# Altium footprint library 0430451209.PcbLib: 1 footprints
Each footprint in its own frame and in the unit in brackets; x right, y up, seen from the top. Pads: shape width x height; smd on the part's side, far side on the other; paste and mask are expansions set on the pad; w line width, h text height; cw(c..) or ccw(c..) is an arc to the next point about the centre after c.
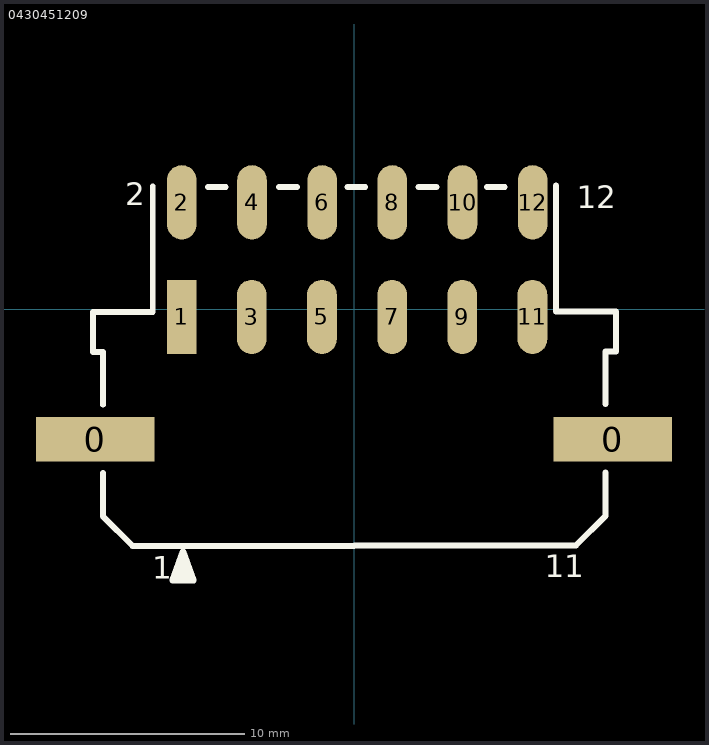
[diagram p0: the footprint, top view; thin cyan lines are the x and y axes]

## 0430451209 [mil]
pads (14):
  rect 200x75 smd: 0(-436,-219) 0(436,-219)
  rect 50x125 smd: 1(-290.4,-13)
  oval 50x125 smd: 2(-290,180) 3(-172.2,-13) 4(-171.8,180) 5(-54,-13) 6(-53.6,180) 7(64.2,-13) 8(64.6,180) 9(182.4,-13) 10(182.8,180) 11(300.6,-13) 12(301,180)
Top Overlay:
  rectangle: -297,-461 -279,-421
  rectangle: -302,-457 -270,-446
  lines w10: -423,-276 -423,-349 -373,-399 0,-399 ; -423,-161 -423,-72 -440,-72 -440,-5 -339,-5 -339,207 ; -271,-457 -306,-457 -288,-408 -270,-457 ; -246,206 -216,206 ; -126,206 -96,206 ; -11,206 19,206 ; 1,-398 374,-398 424,-348 424,-275 ; 109,206 139,206 ; 224,206 254,206 ; 340,208 340,-4 441,-4 441,-71 424,-71 424,-160
  text "12" at 375,170 h38
  text "2" at -385,175 h38
  text "1" at -340,-454 h38
  text "11" at 321,-452 h38
3D body: height 345.35, standoff 0.08, extent -499.91,-399.88 509.93,206.42